# EAGLE library part RM25C256C (library my_library)
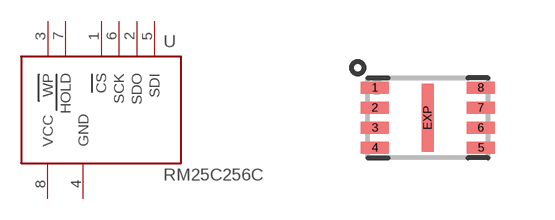
[diagram p11: symbol with the pads of DFN8-2X3; footprint DFN8-2X3]

Designator prefix U

## RM25C256C  [DFN8-2X3]
1  CS
2  SDO
3  WP
4  GND
5  SDI
6  SCK
7  HOLD
8  VCC

## Footprint DFN8-2X3 (pad centres in mm)
8-Lead Plastic Dual Flat No Lead Package (MC) 2x3x0.9 mm Body (DFN) - Saw Singulated Source: http://ww1.microchip.com/downloads/en/DeviceDoc/21796H.pdf
smd 0.7 x 0.3: 1 -1.325,0.75; 2 -1.325,0.25; 3 -1.325,-0.25; 4 -1.325,-0.75; 5 1.325,-0.75; 6 1.325,-0.25; 7 1.325,0.25; 8 1.325,0.75
smd 0.3 x 1.7: EXP 0,0